# EAGLE library part SD (library connectors)
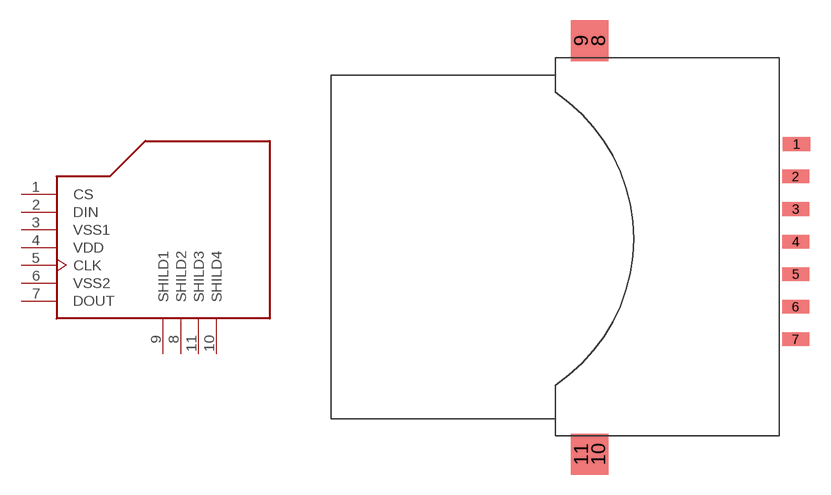
[diagram p6: symbol with the pads of SD1; footprint SD1]

Designator prefix -

## SD  [SD1]
1  CS  nc
2  DIN
3  VSS1  sup
4  VDD  sup
5  CLK  in
6  VSS2  sup
7  DOUT
8  SHILD2  nc
9  SHILD1  nc
10  SHILD4  nc
11  SHILD3  nc

## Footprint SD1 (pad centres in mm)
smd 2 x 1: 1 19.05,7.62; 2 18.98,5.23; 3 18.98,2.83; 4 18.98,0.43; 5 18.98,-1.97; 6 18.98,-4.37; 7 18.98,-6.77
smd 1.5 x 3: 8 4.445,15.24; 9 3.175,15.24; 10 4.445,-15.24; 11 3.175,-15.24